# Altium schematic symbol library 2018-10-11_20-09-59.SchLib: 14 symbols
Pins are listed as number, name and electrical type; pins without a type are passive.

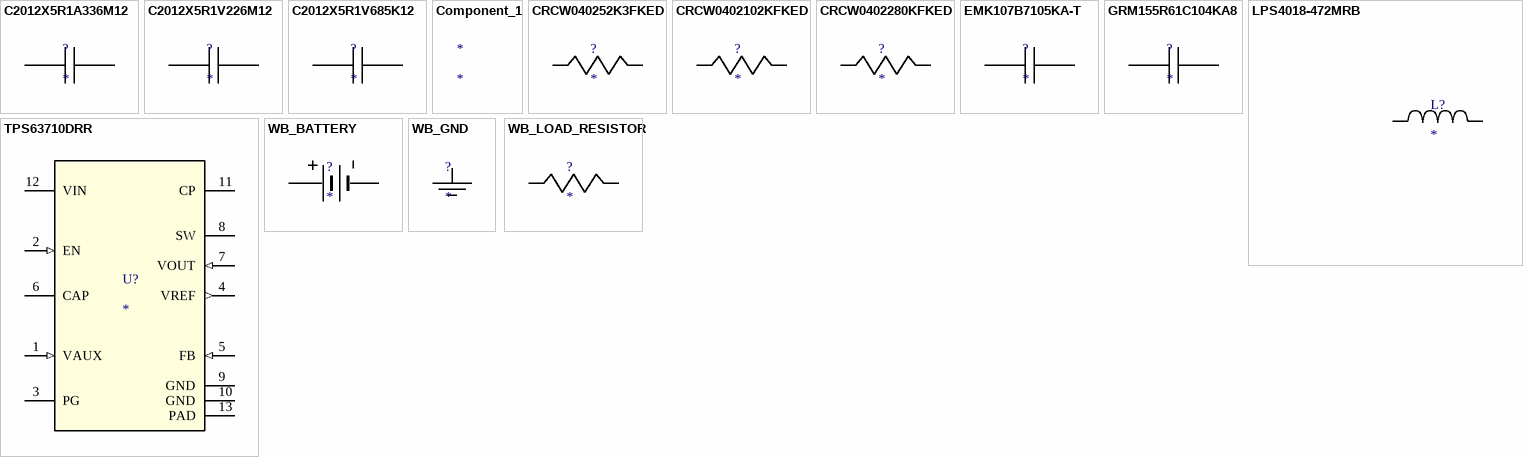
[diagram p0: symbols C2012X5R1A336M12 to WB_LOAD_RESISTOR]

## C2012X5R1A336M12
designator ?
Imported; Manufacturer_Part_Number: C2012X5R1A336M125AC; Vendor: TDK; Manufacturer_Name: TDK; RefDes: RefDes; TYPE: TYPE; Value: Value
footprint 0805
pins: 1, 2

## C2012X5R1V226M12
designator ?
Imported; Manufacturer_Part_Number: C2012X5R1V226M125AC; Vendor: TDK; Manufacturer_Name: TDK; RefDes: RefDes; TYPE: TYPE; Value: Value
footprint 0805
pins: 1, 2

## C2012X5R1V685K12
designator ?
Imported; Manufacturer_Part_Number: C2012X5R1V685K125AC; Vendor: TDK; Manufacturer_Name: TDK; RefDes: RefDes; TYPE: TYPE; Value: Value
footprint 0805
pins: 1, 2

## Component_1
designator *

## CRCW040252K3FKED
designator ?
Imported; Manufacturer_Part_Number: CRCW040252K3FKED; Vendor: Vishay-Dale; Manufacturer_Name: Vishay-Dale; RefDes: RefDes; TYPE: TYPE; Value: Value
footprint 0402
pins: 1, 2

## CRCW0402102KFKED
designator ?
Imported; Manufacturer_Part_Number: CRCW0402102KFKED; Vendor: Vishay-Dale; Manufacturer_Name: Vishay-Dale; RefDes: RefDes; TYPE: TYPE; Value: Value
footprint 0402
pins: 1, 2

## CRCW0402280KFKED
designator ?
Imported; Manufacturer_Part_Number: CRCW0402280KFKED; Vendor: Vishay-Dale; Manufacturer_Name: Vishay-Dale; RefDes: RefDes; TYPE: TYPE; Value: Value
footprint 0402
pins: 1, 2

## EMK107B7105KA-T
designator ?
Imported; Manufacturer_Part_Number: EMK107B7105KA-T; Vendor: Taiyo Yuden; Manufacturer_Name: Taiyo Yuden; RefDes: RefDes; TYPE: TYPE; Value: Value
footprint 0603
pins: 1, 2

## GRM155R61C104KA8
designator ?
Imported; Manufacturer_Part_Number: GRM155R61C104KA88D; Vendor: MuRata; Manufacturer_Name: MuRata; RefDes: RefDes; TYPE: TYPE; Value: Value
footprint 0402
pins: 1, 2

## LPS4018-472MRB
designator L?
Imported; Manufacturer_Part_Number: 'LPS4018-472MRB'; Manufacturer_Name: Coilcraft; Vendor: Gimme a name; RefDes: RefDes; TYPE: TYPE; Value: Value
footprint LPS4018
pins: 1, 2

## TPS63710DRR
designator U?
Imported; PartNumber: TPS63710DRR; Manufacturer: Texas Instruments; RefDes: RefDes; TYPE: TYPE; Value: Value; Manufacturer_Part_Number: TPS63710DRR; Manufacturer_Name: Texas Instruments
footprint DRR0012C
pins: 1 VAUX (in), 2 EN (in), 3 PG (oc), 4 VREF (out), 5 FB (in), 6 CAP, 7 VOUT (in), 8 SW (power), 9 GND (power), 10 GND (power), 11 CP, 12 VIN (power), 13 PAD (power)

## WB_BATTERY
designator ?
Imported; Manufacturer_Part_Number: WB_BATTERY; PowerPortType: POWER_GROUND; Value: Value; Manufacturer_Name: WB_BATTERY; RefDes: RefDes; TYPE: TYPE
pins: 1 +, 2 -

## WB_GND
designator ?
Imported; Manufacturer_Part_Number: WB_GND; PowerPortType: POWER_GROUND; Value: Value; Manufacturer_Name: WB_GND; RefDes: RefDes; TYPE: TYPE
pins: 1

## WB_LOAD_RESISTOR
designator ?
Imported; Manufacturer_Part_Number: WB_LOAD_RESISTOR; PowerPortType: POWER_GROUND; Value: Value; Manufacturer_Name: WB_LOAD_RESISTOR; RefDes: RefDes; TYPE: TYPE
pins: 1, 2